# Altium footprint library AMPHENOL_10137062-00021LF.PcbLib: 1 footprints
Each footprint in its own frame and in the unit in brackets; x right, y up, seen from the top. Pads: shape width x height; smd on the part's side, far side on the other; paste and mask are expansions set on the pad; w line width, h text height; cw(c..) or ccw(c..) is an arc to the next point about the centre after c.
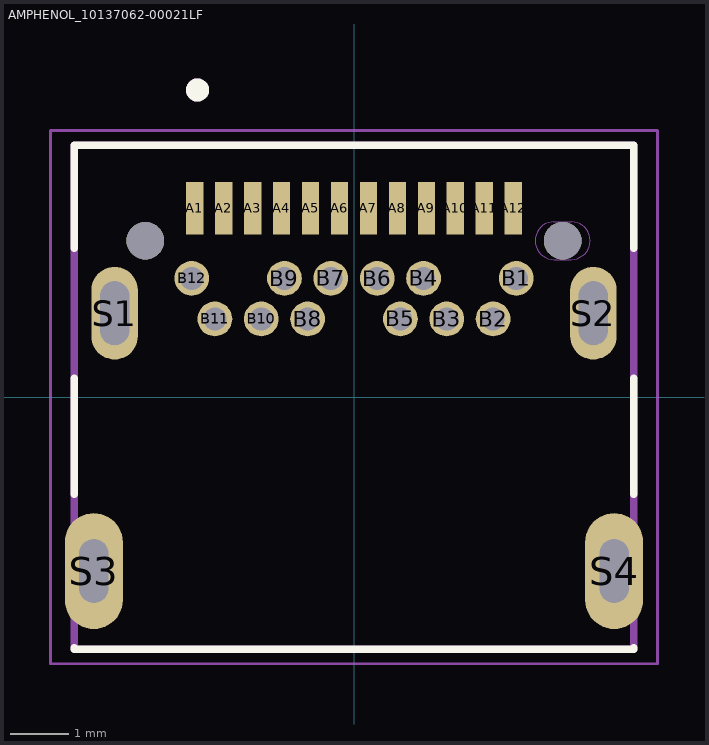
[diagram p0: the footprint, top view; thin cyan lines are the x and y axes]

## AMPHENOL_10137062-00021LF [mm]
height 3.2
pads (30):
  rect 0.3x0.9 smd: A1(-2.75,3.26) A2(-2.25,3.26) A3(-1.75,3.26) A4(-1.25,3.26) A5(-0.75,3.26) A6(-0.25,3.26) A7(0.25,3.26) A8(0.75,3.26) A9(1.25,3.26) A10(1.75,3.26) A11(2.25,3.26) A12(2.75,3.26)
  round 0.6 hole 0.4: B1(2.8,2.05) B2(2.4,1.35) B3(1.6,1.35) B4(1.2,2.05) B5(0.8,1.35) B6(0.4,2.05) B7(-0.4,2.05) B8(-0.8,1.35) B9(-1.2,2.05) B10(-1.6,1.35) B11(-2.4,1.35) B12(-2.8,2.05)
  oval 0.8x1.6 hole 0.5 slot 1.1 at 90 deg: S1(-4.13,1.45) S2(4.13,1.45)
  oval 1x2 hole 0.5 slot 1.1 at 90 deg: S3(-4.49,-3) S4(4.49,-3)
  round 0.65 hole 0.65 unplated: ""(-3.6,2.7) ""(3.6,2.7)
Top Overlay:
  circle w0.2: c-2.7,5.3 r0.1
  lines w0.127: -4.825,-4.32 -4.825,-4.35 4.825,-4.35 4.825,-4.32 ; -4.825,-1.68 -4.825,0.33 ; -4.825,2.57 -4.825,4.35 4.825,4.35 4.825,2.57 ; 4.825,-1.68 4.825,0.33
Mechanical 1:
  lines w0: 3.125,2.7 cw(c3.45,2.7) 3.45,3.025 3.75,3.025 cw(c3.75,2.7) 4.075,2.7 cw(c3.75,2.7) 3.75,2.375 3.45,2.375 cw(c3.45,2.7) 3.125,2.7
Mechanical 13:
  circle w0.2: c-2.7,5.3 r0.1
  lines w0.127: -4.825,-4.35 4.825,-4.35 4.825,4.35 -4.825,4.35 -4.825,-4.35
Mechanical 15:
  lines w0.05: -5.24,-4.6 -5.24,4.6 5.24,4.6 5.24,-4.6 -5.24,-4.6
3D body "step_temp.STEP": height 0, standoff 0, extent 0,0 0,0